# Altium footprint library Hardware.PcbLib: 20 footprints (part 1 of 2)
Each footprint in its own frame and in the unit in brackets; x right, y up, seen from the top. Pads: shape width x height; smd on the part's side, far side on the other; paste and mask are expansions set on the pad; w line width, h text height; cw(c..) or ccw(c..) is an arc to the next point about the centre after c.
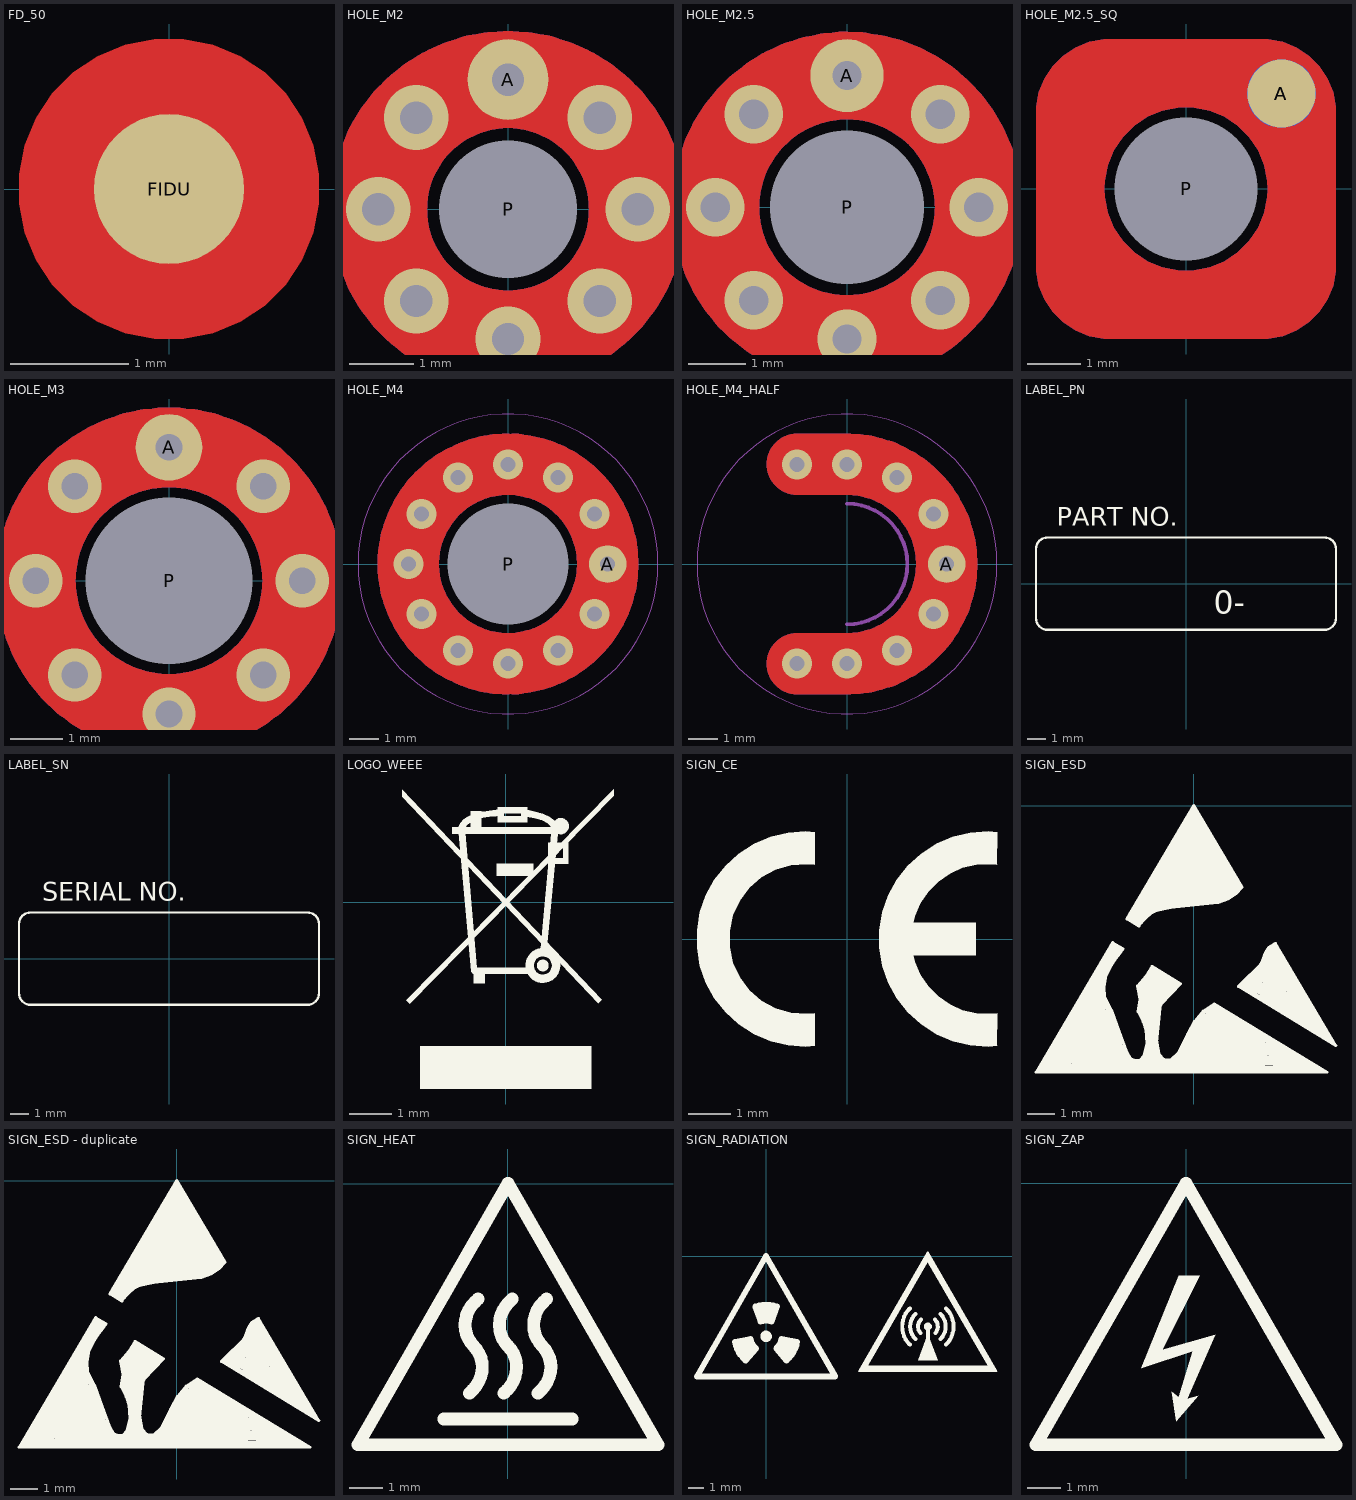
[diagram p0: the footprints below, top view; thin cyan lines are the x and y axes]

## FD_50 [mil]
pads (1):
  round 50 smd paste-1000 mask+20: FIDU(0,0)
Top Layer:
  pour cut-out: 0,50 -4.92,50 -14.58,48.08 -23.68,44.31 -31.87,38.84 -38.84,31.87 -44.31,23.68 -48.08,14.58 -50,4.92 -50,0 -50,-4.92 -48.08,-14.58 -44.31,-23.68 -38.84,-31.87 -31.87,-38.84 -23.68,-44.31 -14.58,-48.08 -4.92,-50 0,-50 4.92,-50 14.58,-48.08 23.68,-44.31 31.87,-38.84 38.84,-31.87 44.31,-23.68 48.08,-14.58 50,-4.92 50,0 50,4.92 48.08,14.58 44.31,23.68 38.84,31.87 31.87,38.84 23.68,44.31 14.58,48.08 4.92,50

## HOLE_M2 [mil] "Example Component"
height 20
pads (2):
  round 50 smd paste-1000: A(0,80)
  round 75 hole 85 unplated mask+30: P(0,0)
via 80,0 diameter 40 hole 20
via 56.57,56.57 diameter 40 hole 20
via 0,80 diameter 40 hole 20
via -56.57,56.57 diameter 40 hole 20
via -80,0 diameter 40 hole 20
via -56.57,-56.57 diameter 40 hole 20
via 0,-80 diameter 40 hole 20
via 56.57,-56.57 diameter 40 hole 20
Top Layer:
  circle w60: c0,0 r80
Bottom Layer:
  circle w60: c0,0 r80

## HOLE_M2.5 [mil] "Example Component"
height 20
pads (2):
  round 50 smd paste-1000: A(0,90)
  round 95 hole 105 unplated mask+30: P(0,0)
via 63.64,-63.64 diameter 40 hole 20
via -63.64,-63.64 diameter 40 hole 20
via -63.64,63.64 diameter 40 hole 20
via 63.64,63.64 diameter 40 hole 20
via 0,-90 diameter 40 hole 20
via -90,0 diameter 40 hole 20
via 0,90 diameter 40 hole 20
via 90,0 diameter 40 hole 20
Top Layer:
  circle w60: c0,0 r90
Bottom Layer:
  circle w60: c0,0 r90

## HOLE_M2.5_SQ [mil] "Example Component"
height 20
pads (3):
  round 50 smd paste-1000: A(70,70)
  round 50 smd far side paste-1000: A(70,70)
  round 95 hole 105 unplated mask+30: P(0,0)
Top Layer:
  region: 0,110 0,60 -5.88,59.71 -17.42,57.42 -28.28,52.92 -38.06,46.38 -46.38,38.06 -52.92,28.28 -57.42,17.42 -59.71,5.88 -60,0 -59.71,-5.88 -57.42,-17.42 -52.92,-28.28 -46.38,-38.06 -38.06,-46.38 -28.28,-52.91 -17.42,-57.42 -5.88,-59.71 0,-60 5.88,-59.71 17.42,-57.42 28.28,-52.91 38.06,-46.38 46.38,-38.06 52.91,-28.28 57.42,-17.42 59.71,-5.88 60,0 59.71,5.88 57.42,17.42 52.92,28.28 46.38,38.06 38.06,46.38 28.28,52.92 17.42,57.42 5.88,59.71 0,60 0,110 55,110 60.42,110 71.04,107.89 81.05,103.74 90.06,97.72 97.72,90.06 103.74,81.05 107.89,71.04 110,60.42 110,55 110,-55 110,-60.42 107.89,-71.04 103.74,-81.05 97.72,-90.06 90.06,-97.72 81.05,-103.74 71.04,-107.89 60.42,-110 55,-110 -55,-110 -60.42,-110 -71.04,-107.89 -81.05,-103.74 -90.06,-97.72 -97.72,-90.06 -103.74,-81.05 -107.89,-71.04 -110,-60.42 -110,-55 -110,55 -110,60.42 -107.89,71.04 -103.74,81.05 -97.72,90.06 -90.06,97.72 -81.05,103.74 -71.04,107.89 -60.42,110 -55,110
Bottom Layer:
  region: 0,110 0,60 5.88,59.71 17.42,57.42 28.28,52.92 38.06,46.38 46.38,38.06 52.92,28.28 57.42,17.42 59.71,5.88 60,0 59.71,-5.88 57.42,-17.42 52.92,-28.28 46.38,-38.06 38.06,-46.38 28.28,-52.91 17.42,-57.42 5.88,-59.71 0,-60 -5.88,-59.71 -17.42,-57.42 -28.28,-52.91 -38.06,-46.38 -46.38,-38.06 -52.91,-28.28 -57.42,-17.42 -59.71,-5.88 -60,0 -59.71,5.88 -57.42,17.42 -52.92,28.28 -46.38,38.06 -38.06,46.38 -28.28,52.92 -17.42,57.42 -5.88,59.71 0,60 0,110 -55,110 -60.42,110 -71.04,107.89 -81.05,103.74 -90.06,97.72 -97.72,90.06 -103.74,81.05 -107.89,71.04 -110,60.42 -110,55 -110,-55 -110,-60.42 -107.89,-71.04 -103.74,-81.05 -97.72,-90.06 -90.06,-97.72 -81.05,-103.74 -71.04,-107.89 -60.42,-110 -55,-110 55,-110 60.42,-110 71.04,-107.89 81.05,-103.74 90.06,-97.72 97.72,-90.06 103.74,-81.05 107.89,-71.04 110,-60.42 110,-55 110,55 110,60.42 107.89,71.04 103.74,81.05 97.72,90.06 90.06,97.72 81.05,103.74 71.04,107.89 60.42,110 55,110

## HOLE_M3 [mil] "Example Component"
height 20
pads (2):
  round 50 smd paste-1000: A(0,100)
  round 120 hole 125 unplated mask+30: P(0,0)
via 100,0 diameter 40 hole 20
via 0,100 diameter 40 hole 20
via -100,0 diameter 40 hole 20
via 0,-100 diameter 40 hole 20
via 70.71,70.71 diameter 40 hole 20
via -70.71,70.71 diameter 40 hole 20
via -70.71,-70.71 diameter 40 hole 20
via 70.71,-70.71 diameter 40 hole 20
Top Layer:
  circle w60: c0,0 r100
Bottom Layer:
  circle w60: c0,0 r100
Top Designator:
  text ".Designator" at -127.64,-12.5 h35

## HOLE_M4 [mil] "Example Component"
height 20
pads (2):
  round 50 smd paste-1000: A(133,0)
  round 120 hole 161 unplated mask+30: P(0,0)
via 115.18,-66.5 diameter 40 hole 20
via 66.5,-115.18 diameter 40 hole 20
via 0,-133 diameter 40 hole 20
via -66.5,-115.18 diameter 40 hole 20
via -115.18,-66.5 diameter 40 hole 20
via -133,0 diameter 40 hole 20
via -115.18,66.5 diameter 40 hole 20
via -66.5,115.18 diameter 40 hole 20
via 0,133 diameter 40 hole 20
via 66.5,115.18 diameter 40 hole 20
via 115.18,66.5 diameter 40 hole 20
via 133,0 diameter 40 hole 20
Top Layer:
  circle w82: c0,0 r133
Bottom Layer:
  circle w82: c0,0 r133
Top Courtyard:
  circle w1: c0,0 r200

## HOLE_M4_HALF [mil] "Example Component"
height 20
pads (1):
  round 50 smd paste-1000: A(133,0)
via 133,0 diameter 40 hole 20
via 115.18,66.5 diameter 40 hole 20
via 66.5,115.18 diameter 40 hole 20
via -66.5,133 diameter 40 hole 20
via 0,-133 diameter 40 hole 20
via 66.5,-115.18 diameter 40 hole 20
via 115.18,-66.5 diameter 40 hole 20
via 0,133 diameter 40 hole 20
via -66.5,-133 diameter 40 hole 20
Top Layer:
  lines w82: -66.5,-133 0,-133 ccw(c0,0) 0,133 -66.5,133
Bottom Layer:
  lines w82: -66.5,-133 0,-133 ccw(c0,0) 0,133 -66.5,133
Top Courtyard:
  circle w1: c0,0 r200
Top Component Outline:
  lines w5: 0,-80.5 ccw(c0,0) 0,80.5

## LABEL_PN [mil]
Top Overlay:
  lines w5: -325,-75 ccw(c-300,-75) -300,-100 300,-100 ccw(c300,-75) 325,-75 325,75 ccw(c300,75) 300,100 -300,100 ccw(c-300,75) -325,75 -325,-75
  text "PART NO." at -280,125 h40
  text ".Top_ModelNumber" at -379.04,28.34 h50
  text "0-" at 60,-65 h50
  text ".Top_ProjectRevision" at -276.52,-56.67 h50
  text ".Top_ProjectNumber" at -823.14,-56.67 h50
3D body: height 1, standoff 0, extent -325.02,-100.02 325.02,100.02

## LABEL_SN [mil]
Top Overlay:
  lines w5: -325,-75 ccw(c-300,-75) -300,-100 300,-100 ccw(c300,-75) 325,-75 325,75 ccw(c300,75) 300,100 -300,100 ccw(c-300,75) -325,75 -325,-75
  text "SERIAL NO." at -275,125 h40
3D body: height 1, standoff 0, extent -325.02,-100.02 325.02,100.02

## LOGO_WEEE [mil]
Top Overlay:
  drawing of 23 lines, arcs and shapes, not listed

## SIGN_CE [mil] "Example Component"
Top Overlay:
  region: 137.8,-68.19 131.38,-68.81 118.5,-68.25 105.96,-65.29 94.19,-60.06 83.6,-52.72 74.56,-43.54 67.39,-32.84 62.33,-20.99 60.66,-14.76 118.11,-14.76 118.11,14.76 60.66,14.76 62.33,20.99 67.39,32.84 74.56,43.54 83.6,52.72 94.19,60.06 105.96,65.29 118.5,68.25 131.38,68.81 137.8,68.19 137.79,68.19 137.8,97.93 129.59,98.76 113.15,97.65 97.11,93.83 81.93,87.39 68.04,78.52 55.81,67.46 45.6,54.53 37.68,40.07 32.27,24.5 29.53,8.24 29.53,-8.24 32.27,-24.5 37.68,-40.07 45.6,-54.53 55.81,-67.46 68.04,-78.52 81.93,-87.39 97.11,-93.83 113.15,-97.65 129.59,-98.76 137.8,-97.93 137.79,-97.93
  region: -29.53,-97.93 -37.73,-98.76 -54.18,-97.65 -70.21,-93.83 -85.39,-87.39 -99.28,-78.52 -111.51,-67.46 -121.72,-54.53 -129.65,-40.07 -135.05,-24.5 -137.8,-8.24 -137.8,8.24 -135.05,24.5 -129.65,40.07 -121.72,54.53 -111.51,67.46 -99.28,78.52 -85.39,87.39 -70.21,93.83 -54.18,97.65 -37.73,98.76 -29.53,97.93 -29.53,68.19 -36.88,68.85 -51.57,67.81 -65.71,63.66 -78.65,56.61 -89.78,46.96 -98.62,35.17 -104.74,21.76 -107.87,7.37 -107.87,-7.37 -104.74,-21.76 -98.62,-35.17 -89.78,-46.96 -78.65,-56.61 -65.71,-63.66 -51.57,-67.81 -36.88,-68.85 -29.53,-68.19

## SIGN_ESD [mil] "Example Component"
Top Overlay:
  drawing of 697 lines, arcs and shapes, not listed

## SIGN_ESD - duplicate [mil] "Example Component"
Top Overlay:
  drawing of 697 lines, arcs and shapes, not listed

## SIGN_HEAT [mil] "Example Component"
Top Overlay:
  lines w15: -74.84,-274.73 75.16,-274.73 ; -44.84,-244.73 -41.06,-240.94 ccw(c-68.13,-213.87) -29.84,-213.87 ccw(c-63.99,-213.87) -39.84,-189.73 cw(c-15.7,-165.59) -49.84,-165.59 -49.84,-164.73 cw(c-13.63,-164.73) -39.24,-139.12 -34.84,-134.73 ; -4.84,-244.73 -1.06,-240.94 ccw(c-28.13,-213.87) 10.16,-213.87 ccw(c-23.99,-213.87) 0.16,-189.73 cw(c24.3,-165.59) -9.84,-165.59 -9.84,-164.73 cw(c26.37,-164.73) 0.76,-139.12 5.16,-134.73 ; 35.16,-244.73 38.94,-240.94 ccw(c11.87,-213.87) 50.16,-213.87 ccw(c16.01,-213.87) 40.16,-189.73 cw(c64.3,-165.59) 30.16,-165.59 30.16,-164.73 cw(c66.37,-164.73) 40.76,-139.12 45.16,-134.73 ; -174.84,-304.73 0.16,0.27 175.16,-304.73 -174.84,-304.73

## SIGN_RADIATION [mil]
Top Overlay:
  circle w10: c410,-178.45 r5
  circle w15: c0,-203.33 r7
  region: 585,-291.55 235,-291.55 257.71,-278.45 562.29,-278.45
  region: 410,11.55 585,-291.55 562.29,-278.45 410,-14.66
  region: 235,-291.55 410,11.55 410,-14.66 257.71,-278.45
  region: 410,-198.45 385,-263.45 435,-263.45
  region: 39.39,-210.28 25.71,-233.98 51.42,-264.62 78.78,-217.23
  region: -13.68,-165.75 13.68,-165.75 27.36,-128.16 -27.36,-128.16
  region: -25.71,-233.98 -39.39,-210.28 -78.78,-217.23 -51.42,-264.62
  lines w3: 235,-291.55 585,-291.55 ; 235,-291.55 410,11.55 ; 235,-291.55 257.71,-278.45 ; 257.71,-278.45 562.29,-278.45 ; 257.71,-278.45 410,-14.66 ; 410,-14.66 562.29,-278.45 ; 410,-14.66 410,11.55 ; 410,11.55 585,-291.55 ; 562.29,-278.45 585,-291.55
  lines w10: 364.04,-224.41 cw(c410,-178.45) 364.04,-132.48 ; 378.18,-210.27 cw(c410,-178.45) 378.18,-146.63 ; 390.85,-194.52 cw(c410,-178.45) 392.32,-160.77 ; 410,-248.45 410,-178.45 ; 427.68,-160.77 cw(c410,-178.45) 429.15,-194.52 ; 441.82,-210.27 ccw(c410,-178.45) 441.82,-146.63 ; 455.96,-224.41 ccw(c410,-178.45) 455.96,-132.48
  lines w15: -175,-305 0,0 175,-305 -175,-305 ; -78.78,-217.23 ccw(c0,-203.33) -51.42,-264.62 -25.71,-233.98 cw(c0,-203.33) -39.39,-210.28 -78.78,-217.23 ; -27.36,-128.16 cw(c0,-203.33) 27.36,-128.16 13.68,-165.75 ccw(c0,-203.33) -13.68,-165.75 -27.36,-128.16 ; 25.71,-233.98 ccw(c0,-203.33) 39.39,-210.28 78.78,-217.23 cw(c0,-203.33) 51.42,-264.62 25.71,-233.98

## SIGN_ZAP [mil]
Top Overlay:
  region: -8.29,-108.02 16.15,-108.02 -27.84,-194.37 34.07,-176.45 1.48,-251.39 14.52,-248.13 -11.55,-277.46 -16.44,-243.25 -8.29,-249.76 8,-196 -52.28,-215.55
  lines w15: -175,-305 0,0 175,-305 -175,-305